# EAGLE library part WE-RJ45_74990112116A (library Wurth_Signal & Communications_WE-RJ45_LAN)
WE-RJ45 LAN Transformer Characteristics RJ45 Connector with integrated transformer / common mode choke Power over Ethernet up to 50 Watt and speeds up to 10 Gbit/s Available in SMD, THT and THT with USB Compliant with standards: IEEE 802.3u, IEEE 802.3ab, IEEE 802.3af, IEEE 802.3at, IEEE 802.3an and upcoming IEE 802.3bt Applications Suitable for industrial temperatures from –40 °C up to +85 °C Compatible to Industrial Ethernet systems like EtherCAT or Profinet Compliant with most IC’s for Ethernet applications such as Microchip, Texas Instruments, Broadcom, Linear Technology Hubs, Routers, Switches, IP cameras, IoT applications <https://www.we-online.com/components/media/o35731v209%20Family-WE-RJ45LAN-7499xxxxxx.jpg> Details see: www.we-online.com/components/products/WE-LAN-RJ45 <www.we-online.com/catalog/WE-LAN-RJ45/?utm_source=eagle_model&utm_medium=description_link&utm_campaign=eisos_eagle> Updated by Ella Wu 2024-03-22 2024 (C) Wurth Elektronik
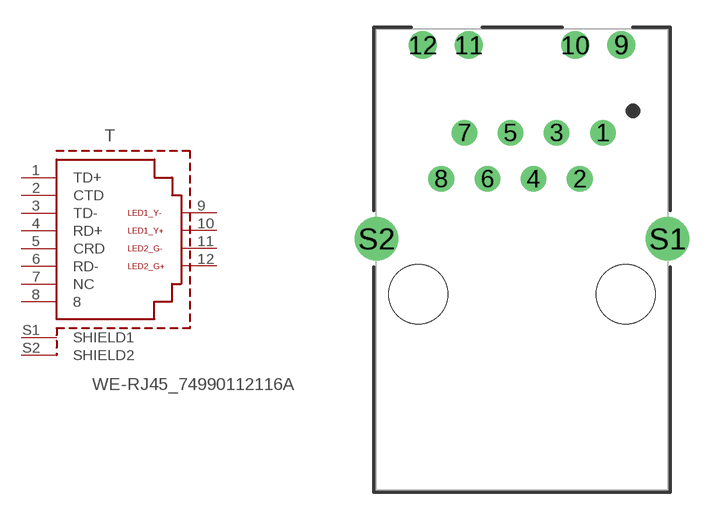
[diagram p18: symbol with the pads of 74990112116A; footprint 74990112116A]

Designator prefix T

## WE-RJ45_74990112116A (DATA-RATE: 10/100 Base-T; DATASHEET-URL: https://www.we-online.com/redexpert/spec/74990112116A?ae; LED: green-yellow; MOUNT: THT; PART-NUMBER: 74990112116A; POE: non-PoE; PORTS: 1; USB: No; VALUE: 74990112116A)  [74990112116A]
1  TD+  pas
2  CTD  pas
3  TD-  pas
4  RD+  pas
5  CRD  pas
6  RD-  pas
7  NC  pas
8  8  pas
9  LED1_Y-  pas
10  LED1_Y+  pas
11  LED2_G-  pas
12  LED2_G+  pas
S1  SHIELD1  pas
S2  SHIELD2  pas

## Footprint 74990112116A (pad centres in mm)
WE-RJ45 LAN Transformer 10/100 Base-T
drill 0.9: 1 4.445,8.89; 2 3.175,6.35; 3 1.905,8.89; 4 0.635,6.35; 5 -0.635,8.89; 6 -1.905,6.35; 7 -3.175,8.89; 8 -4.445,6.35
drill 1.02: 9 5.465,13.72; 10 2.925,13.72; 11 -2.925,13.72; 12 -5.465,13.72
drill 1.6: S1 8,3.05; S2 -8,3.05
hole 3.25 at 5.715,0
hole 3.25 at -5.715,0